# Altium footprint library FishLib.PcbLib: 7 footprints
Each footprint in its own frame and in the unit in brackets; x right, y up, seen from the top. Pads: shape width x height; smd on the part's side, far side on the other; paste and mask are expansions set on the pad; w line width, h text height; cw(c..) or ccw(c..) is an arc to the next point about the centre after c.
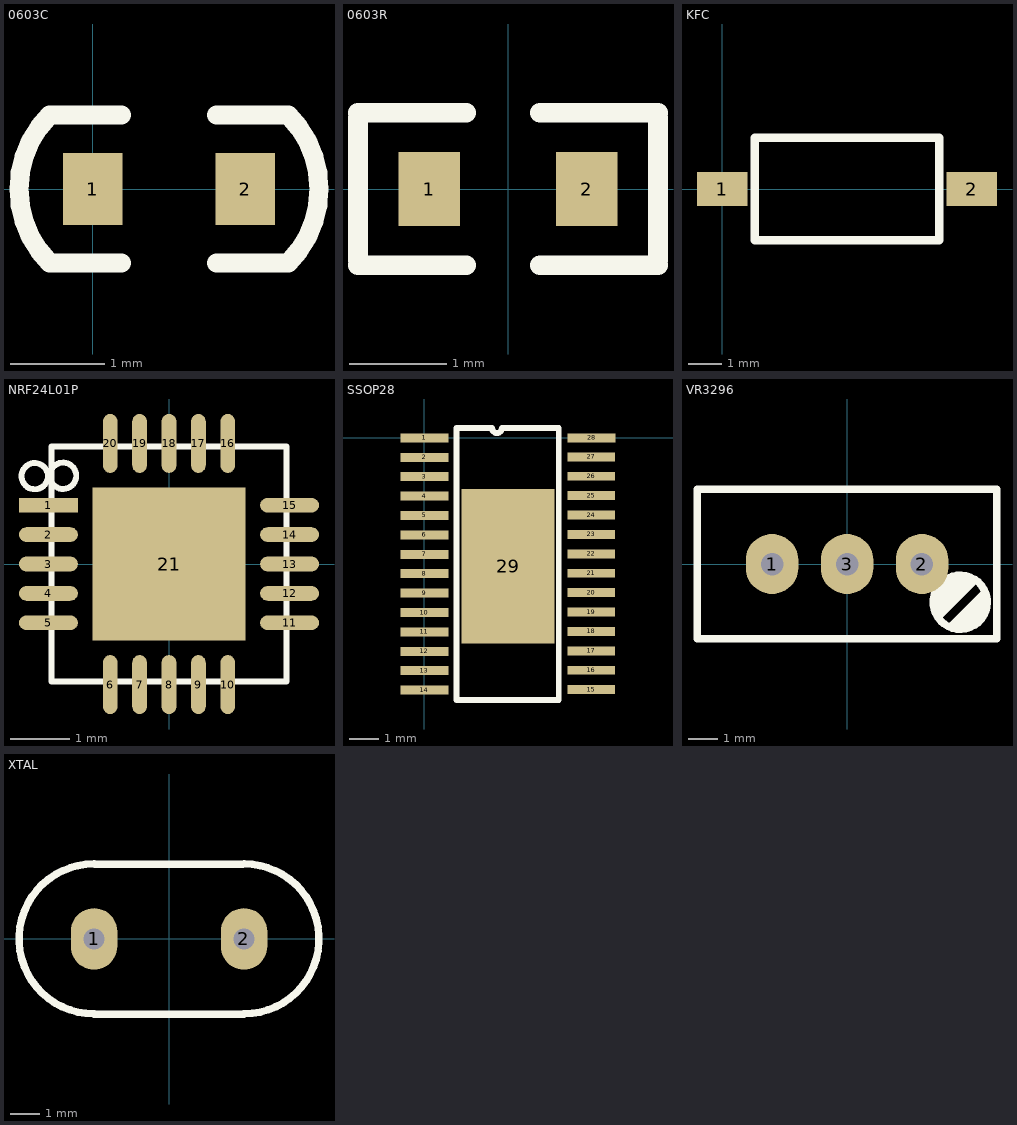
[diagram p0: the footprints below, top view; thin cyan lines are the x and y axes]

## 0603C [mil]
pads (2):
  rect 25x30 smd: 1(0,0) 2(64,0)
Top Overlay:
  lines w8: 12,-31 -18,-31 cw(c13,0) -18,31 12,31 ; 52,-31 82,-31 ccw(c51,0) 82,31 52,31

## 0603R [mil]
pads (2):
  rect 25x30 smd: 1(-32,0) 2(32,0)
Top Overlay:
  lines w8: -61,-31 -17,-31 ; -61,-29 -61,29 ; -61,31 -17,31 ; 13,-31 61,-31 ; 13,31 61,31 ; 61,-29 61,29

## KFC [mm]
pads (2):
  rect 1.5x1 smd: 1(0,0) 2(7.45,0)
Top Overlay:
  lines w0.254: 0.974,-1.524 0.974,1.524 6.481,1.524 6.481,-1.524 0.994,-1.524

## NRF24L01P [mm]
pads (21):
  rect 1x0.25 smd: 1(-2.05,1)
  oval 1x0.25 smd: 2(-2.05,0.5) 3(-2.05,0) 4(-2.05,-0.5) 5(-2.05,-1) 11(2.05,-1) 12(2.05,-0.5) 13(2.05,0) 14(2.05,0.5) 15(2.05,1)
  oval 0.25x1 smd: 6(-1,-2.05) 7(-0.5,-2.05) 8(0,-2.05) 9(0.5,-2.05) 10(1,-2.05) 16(1,2.05) 17(0.5,2.05) 18(0,2.05) 19(-0.5,2.05) 20(-1,2.05)
  rect 2.6x2.6 smd: 21(0,0)
Top Overlay:
  circle w0.1: c-1.8,1.5 r0.224
  circle w0.1: c-2.283,1.494 r0.224
  circle w0.1: c-2.283,1.494 r0.224
  lines w0.1: -2,-2 2,-2 ; -2,-2 -2,2 ; -2,-2 2,-2 ; -2,-2 -2,2 ; -2,-2 2,-2 ; -2,-2 -2,2 ; -2,2 2,2 ; -2,2 2,2 ; -2,2 2,2 ; 2,-2 2,2 ; 2,-2 2,2 ; 2,-2 2,2

## SSOP28 [mm]
pads (29):
  rect 1.6x0.3 smd mask+0.07: 1(0,0) 2(0,-0.65) 3(0,-1.3) 4(0,-1.95) 5(0,-2.6) 6(0,-3.25) 7(0,-3.9) 8(0,-4.55) 9(0,-5.2) 10(0,-5.85) 11(0,-6.5) 12(0,-7.15) 13(0,-7.8) 14(0,-8.45) 15(5.588,-8.435) 16(5.588,-7.785) 17(5.588,-7.135) 18(5.588,-6.485) 19(5.588,-5.835) 20(5.588,-5.185) 21(5.588,-4.535) 22(5.588,-3.885) 23(5.588,-3.235) 24(5.588,-2.585) 25(5.588,-1.935) 26(5.588,-1.285) 27(5.588,-0.635) 28(5.6,0)
  rect 3.1x5.18 smd mask+0.07: 29(2.8,-4.3)
Top Overlay:
  lines w0.2: 1.07,-8.775 4.5,-8.775 4.5,0.325 2.592,0.325 cw(c2.43,0.325) 2.268,0.325 1.07,0.325 1.07,-8.775

## VR3296 [mil]
pads (3):
  oval 70x80 hole 30: 1(-100,0) 2(100,0) 3(0,0)
Top Overlay:
  circle w10: c151,-51 r36.06
  lines w10: 157.76,-74.24 164.24,-74.24 171,-81 ; 171,-21 151,-41 121,-71 121,-61 161,-21 141,-21 ; 172.88,-79.12 171,-81 ; 181,-41 141,-81 151,-81 ; 131,-31 141,-31 ; 131,-31 141,-21 ; 131,-31 121,-41 121,-51 141,-31 ; 141,-31 151,-31 141,-21 ; 141,-31 141,-21 ; 151,-81 166.82,-65.18 172.88,-65.18 187.06,-51 187.06,-47.06 172.88,-61.23 170.77,-61.23 171,-61.47 171,-81 ; 151,-81 171,-81 ; -200,-100 -200,100 200,100 200,-100 0,-100 -200,-100

## XTAL [mil]
pads (2):
  oval 62x82 hole 28: 1(-100,0) 2(100,0)
Top Overlay:
  lines w10: -100,-100.39 99.8,-100.39 ; -100,-100 cw(c-100,0) -100,100 ; -99.02,99.41 98.62,99.37 ; 100,-100 ccw(c100,0) 100,100